# Altium footprint library minhpcbLIB.PcbLib: 2 footprints
Each footprint in its own frame and in the unit in brackets; x right, y up, seen from the top. Pads: shape width x height; smd on the part's side, far side on the other; paste and mask are expansions set on the pad; w line width, h text height; cw(c..) or ccw(c..) is an arc to the next point about the centre after c.
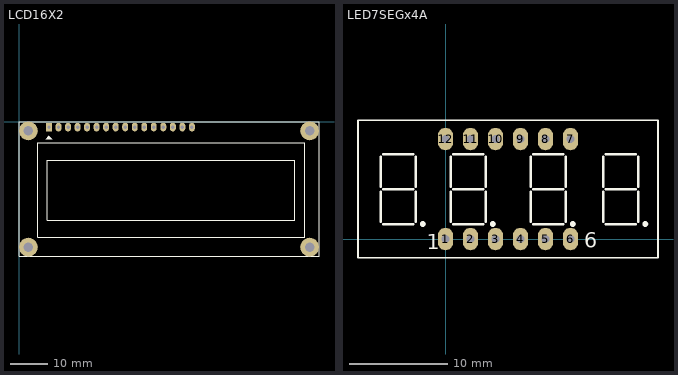
[diagram p0: the footprints below, top view; thin cyan lines are the x and y axes]

## LCD16X2 [mm] "LCD dipslay 16x2, 16 pin"
height 10.16
pads (20):
  rect 1.575x2.286 hole 0.914: 1(8,-1.5)
  oval 1.575x2.286 hole 0.914: 2(10.54,-1.5) 3(13.08,-1.5) 4(15.62,-1.5) 5(18.16,-1.5) 6(20.7,-1.5) 7(23.24,-1.5) 8(25.78,-1.5) 9(28.32,-1.5) 10(30.86,-1.5) 11(33.4,-1.5) 12(35.94,-1.5) 13(38.48,-1.5) 14(41.02,-1.5) 15(43.56,-1.5) 16(46.1,-1.5)
  round 5 hole 2.5: "Hole 0"(2.5,-2.5) "Hole 0"(77.5,-2.5) "Hole 1"(2.5,-33.5) "Hole 1"(77.5,-33.5)
Top Overlay:
  region: 8,-3.786 7.111,-4.675 8.889,-4.675
  lines w0.178: 0,-36 0,0 80,0 80,-36 0,-36 ; 5,-30.9 5,-5.7 76.2,-5.7 76.2,-30.9 5,-30.9 ; 7.55,-26.3 7.55,-10.3 73.55,-10.3 73.55,-26.3 7.55,-26.3
3D body: height 10.52, standoff -2.69, extent 0,-36.03 80.5,0.47

## LED7SEGx4A [mil] "DIP 12 Leads; Body 32x 15 mm; Pitch 0.5 mm"
height 300
pads (12):
  oval 60x90 hole 31: 1(0,0) 2(100,0) 3(200,0) 4(300,0) 5(400,0) 6(500,0) 7(500,400) 8(400,400) 9(300,400) 10(200,400) 11(100,400) 12(0,400)
Top Overlay:
  circle w12: c509,60 r6
  circle w12: c799,60 r6
  circle w12: c-91,60 r6
  circle w12: c189,60 r6
  lines w7: -350,-75 -350,475 850,475 850,-75 -350,-75
  lines w10: -260,70 -260,190 ; -260,210 -260,330 ; -250,60 -130,60 ; -250,340 -130,340 ; -120,70 -120,190 ; -120,210 -120,330 ; 20,70 20,190 ; 20,210 20,330 ; 30,60 150,60 ; 30,340 150,340 ; 160,70 160,190 ; 160,210 160,330 ; 340,70 340,190 ; 340,210 340,330 ; 350,60 470,60 ; 350,340 470,340 ; 480,70 480,190 ; 480,210 480,330 ; 630,70 630,190 ; 630,210 630,330 ; 640,60 760,60 ; 640,340 760,340 ; 770,70 770,190 ; 770,210 770,330 ; -250,200 -130,200 -250,200 ; 30,200 150,200 30,200 ; 350,200 470,200 350,200 ; 640,200 760,200 640,200
  text "1" at -75,-40 h60
  text "6" at 555,-35 h60
3D body: height 238, standoff -98, extent -351,-60 850,460